# Altium schematic symbol library Control_Board_Model.SCHLIB: 226 symbols (part 3 of 7)
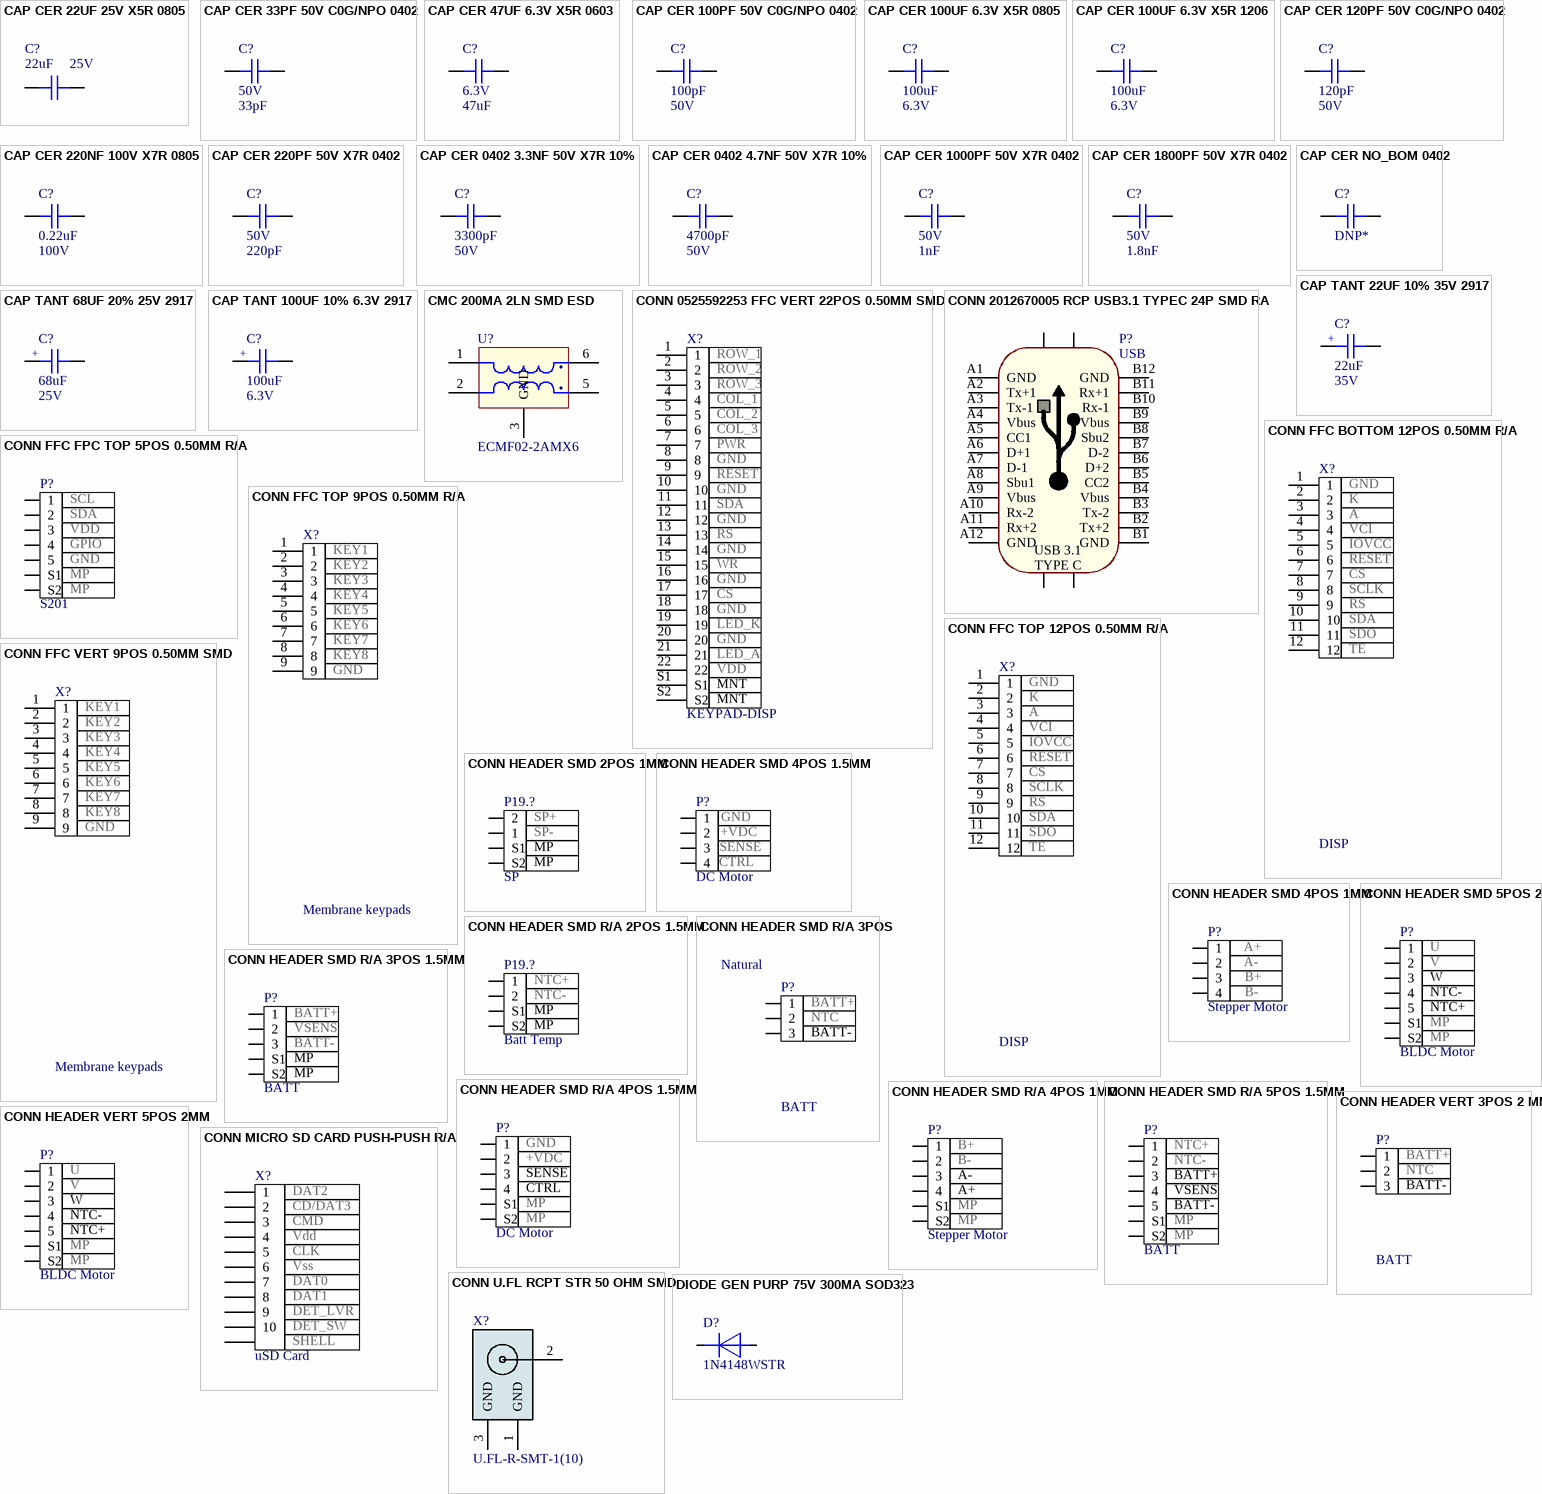
[diagram p9: symbols CAP CER 22UF 25V X5R 0805 to DIODE GEN PURP 75V 300MA SOD323]

## CONN HEADER SMD R/A 3POS 1.5MM
designator P?, comment BATT  pin_1: BATT+  pin_2: VSENS  pin_3: BATT-  pin_MP1: MP
Connector Header Surface Mount, Right Angle 3 position 0.059" (1.50mm); Manufacturer: JST; Manufacturer Part Number: S3B-ZR-SM4A-TF(LF)(SN); Number of Positions: 3; Connector Type: Male Pin; Voltage Rating: 50V; Contact Resistance: 30mR; Max Current Rating: 1A; Gender: Male; Pitch: 1.5mm; Supplier 1: Digi-Key; Stock 1: 0; Mount: Surface Mount; Color: Natural; Contact Plating: Tin,Copper; Contact Material: Brass,Tin; Housing Color: Beige; Housing Material: Polyamide; Min Operating Temperature: -25°C; Max Operating Temperature: 85°C; Packaging: Tape and Reel; Number of Rows: 1; Termination: Solder; Current Rating: 1A; Fastening Type: Detent; Max Voltage Rating (AC): 50V; Number of Contacts: 3; Orientation: Right Angle; Length: 7.5mm; Height: 7.2mm; Width: 3.5mm; Depth: 6.5mm; Lead Free: Lead Free; ComponentLink1URL: http://www.jst-mfg.com/product/pdf/eng/eZH.pdf?src-supplier=Digi-Key; ComponentLink1Description: http://www.jst-mfg.com/product/pdf/eng/eZH.pdf?src-supplier=Digi-Key; ComponentLink2URL: http://uk.rs-online.com/webdocs/13ed/0900766b813ed0dc.pdf?src-supplier=RSComponents; ComponentLink2Description: http://uk.rs-online.com/webdocs/13ed/0900766b813ed0dc.pdf?src-supplier=RSComponents; ComponentLink3URL: https://www.verical.com/server-webapp/html/getDatasheet?partID=641056&src-supplier=Verical; ComponentLink3Description: https://www.verical.com/server-webapp/html/getDatasheet?partID=641056&src-supplier=Verical; Supplier Part Number 1: 455-1694-1-ND; Pricing 1: 1=0.6, 10=0.561, 100=0.4304, 500=0.3743 (USD); Series: ZH; Contact Type: Male Pin; pin_MP2: MP
footprint CONN_JST_S3B-ZR-SM4A-TF(LF)(SN) (Footprint not found)
pins: 1, 2, 3, S1, S2

## CONN HEADER SMD R/A 4POS 1.5MM
designator P?, comment DC Motor  pin_1: GND  pin_2: +VDC  pin_MP1: MP  pin_3: SENSE  pin_4: CTRL
Connector Header Surface Mount, Right Angle 4 position 0.059" (1.50mm); Manufacturer: JST; Manufacturer Part Number: S4B-ZR-SM4A-TF(LF)(SN); Number of Positions: 4; Connector Type: Male Pin; Contact Resistance: 30mR; Max Current Rating: 1A; Voltage Rating: 50V; Gender: Male; Pitch: 1.5mm; Supplier 1: Digi-Key; Stock 1: 0; Mount: Surface Mount; Color: Natural; Contact Plating: Tin,Copper; Contact Material: Brass,Tin; Housing Color: Beige; Housing Material: Polyamide; Min Operating Temperature: -25°C; Max Operating Temperature: 85°C; Number of Rows: 1; Packaging: Tape and Reel; Series: ZH; Contact Type: Male Pin; Termination: Solder; Current Rating: 1A; Fastening Type: Detent; Max Voltage Rating (AC): 50V; Max Voltage Rating (DC): 50V; Number of Contacts: 4; Orientation: Right Angle; Length: 9mm; Width: 3.5mm; Height: 7.2mm; Depth: 6.5mm; Lead Free: Lead Free; ComponentLink1URL: http://www.jst-mfg.com/product/pdf/eng/eZH.pdf?src-supplier=Digi-Key; ComponentLink1Description: http://www.jst-mfg.com/product/pdf/eng/eZH.pdf?src-supplier=Digi-Key; ComponentLink2URL: http://uk.rs-online.com/webdocs/13ed/0900766b813ed0da.pdf?src-supplier=RSComponents; ComponentLink2Description: http://uk.rs-online.com/webdocs/13ed/0900766b813ed0da.pdf?src-supplier=RSComponents; ComponentLink3URL: https://www.verical.com/server-webapp/html/getDatasheet?partID=646289&src-supplier=Verical; ComponentLink3Description: https://www.verical.com/server-webapp/html/getDatasheet?partID=646289&src-supplier=Verical; ComponentLink4URL: https://www.verical.com/server-webapp/html/getDatasheet?partID=558977&src-supplier=Verical; ComponentLink4Description: https://www.verical.com/server-webapp/html/getDatasheet?partID=558977&src-supplier=Verical; Supplier Part Number 1: 455-1695-1-ND; pin_MP2: MP
footprint CONN_JST_S4B-ZR-SM4A-TF(LF)(SN) (Footprint not found)
pins: 1, 2, 3, 4, S1, S2

## CONN HEADER SMD R/A 4POS 1MM
designator P?, comment Stepper Motor  pin_1: B+  pin_2: B-  pin_MP1: MP  pin_3: A-  pin_4: A+
Connector Header Surface Mount, Right Angle 4 position 0.039" (1.00mm); Manufacturer: JST; Manufacturer Part Number: SM04B-NSHSS-TB(LF)(SN); Number of Positions: 4; Connector Type: Outer Shroud Contact; Pitch: 0.039inch; Supplier 1: Digi-Key; Stock 1: 27326; Pricing 1: 1=0.79, 10=0.694, 100=0.5985, 500=0.4897 (USD); Mount: Surface Mount; Color: Natural; Contact Plating: Tin; Fastening Type: Latch; Packaging: Tape and Reel; Number of Rows: 1; Termination: Solder; Series: NSH; Contact Type: Outer Shroud Contact; Supplier Part Number 1: 455-2774-1-ND; pin_MP2: MP
footprint CONN_JST_SM4B-NSHSS-TB(LF)(SN) (Footprint not found)
pins: 1, 2, 3, 4, S1, S2

## CONN HEADER SMD R/A 5POS 1.5MM
designator P?, comment BATT  pin_1: NTC+  pin_2: NTC-  pin_MP1: MP  pin_3: BATT+  pin_4: VSENS  pin_5: BATT-
Connector Header Surface Mount, Right Angle 5 position 0.059" (1.50mm); Manufacturer: JST; Manufacturer Part Number: S5B-ZR-SM4A-TF(LF)(SN); Number of Positions: 5; Connector Type: Male Pin; Contact Resistance: 30mR; Current Rating: 1A; Voltage Rating: 50V; Gender: Male; Pitch: 1.5mm; Supplier 1: Digi-Key; Stock 1: 0; Mount: Surface Mount; Color: Natural; Contact Plating: Tin,Copper; Contact Material: Brass,Tin; Housing Material: Polyamide; Housing Color: Beige; Min Operating Temperature: -25°C; Max Operating Temperature: 85°C; Number of Rows: 1; Packaging: Tape and Reel; Series: ZH; Contact Type: Male Pin; Termination: Solder; Max Current Rating: 1A; Fastening Type: Detent; Max Voltage Rating (AC): 50V; Number of Contacts: 5; Orientation: Right Angle; Length: 10.5mm; Width: 3.5mm; Height: 7.2mm; Depth: 6.5mm; REACH SVHC: Unknown; Lead Free: Lead Free; ComponentLink1URL: http://www.farnell.com/datasheets/2322661.pdf?src-supplier=Element14; ComponentLink1Description: http://www.farnell.com/datasheets/2322661.pdf?src-supplier=Element14; ComponentLink2URL: http://www.jst-mfg.com/product/pdf/eng/eZH.pdf?src-supplier=Digi-Key; ComponentLink2Description: http://www.jst-mfg.com/product/pdf/eng/eZH.pdf?src-supplier=Digi-Key; ComponentLink3URL: https://www.verical.com/server-webapp/html/getDatasheet?partID=640788&src-supplier=Verical; ComponentLink3Description: https://www.verical.com/server-webapp/html/getDatasheet?partID=640788&src-supplier=Verical; ComponentLink4URL: http://www.jst-mfg.com/product/pdf/eng/eZR.pdf?src-supplier=Future+Electronics; ComponentLink4Description: http://www.jst-mfg.com/product/pdf/eng/eZR.pdf?src-supplier=Future+Electronics; Supplier Part Number 1: 455-1696-1-ND; pin_MP2: MP
footprint CONN_JST_S5B-ZR-SM4A-TF(LF)(SN) (Footprint not found)
pins: 1, 2, 3, 4, 5, S1, S2

## CONN HEADER VERT 3POS 2 MM
designator P?, comment BATT  pin_1: BATT+  pin_2: NTC  pin_3: BATT-
Connector Header Through Hole 3 position 0.079" (2.00mm); Manufacturer: JST; Manufacturer Part Number: B03B-PASK-1(LF)(SN); Number of Positions: 3; Connector Type: Male Pin; Contact Resistance: 20mR; Current Rating: 3A; Voltage Rating: 250V; Gender: Male; Pitch: 2mm; Supplier 1: Digi-Key; Stock 1: 0; Mount: Surface Mount; Color: Natural; Contact Plating: Tin,Copper; Contact Material: Brass,Tin; Housing Material: Polyamide; Housing Color: Beige; Min Operating Temperature: -25°C; Max Operating Temperature: 85°C; Number of Rows: 1; Packaging: Tape and Reel; Series: ZH; Contact Type: Male Pin; Termination: Solder; Max Current Rating: 3A; Fastening Type: Detent; Max Voltage Rating (AC): 250V; Number of Contacts: 3; Orientation: Right Angle; REACH SVHC: Unknown; Lead Free: Lead Free; ComponentLink1URL: https://www.digikey.com/en/products/detail/jst-sales-america-inc/B03B-PASK-1-LF-SN/926739; ComponentLink1Description: https://www.digikey.com/en/products/detail/jst-sales-america-inc/B03B-PASK-1-LF-SN/926739; Supplier Part Number 1: 455-1833-ND
footprint CONN_JST_B03B-PASK-1(LF)(SN) (Connector Header Through Hole 3 position 0.079" (2.00mm))
pins: 1, 2, 3

## CONN HEADER VERT 5POS 2MM
designator P?, comment BLDC Motor  pin_1: U  pin_2: V  pin_MP1: MP  pin_3: W  pin_4: NTC-  pin_5: NTC+
Connector Header Through Hole 5 position 0.079" (2.00mm); Manufacturer: JST; Manufacturer Part Number: B5B-PH-K-S(LF)(SN); Number of Positions: 5; Connector Type: Male Pin; Contact Resistance: 20mR; Current Rating: 2A; Voltage Rating: 100V; Gender: Male; Pitch: 2mm; Supplier 1: Digi-Key; Stock 1: 0; Mount: Surface Mount; Color: Natural; Contact Plating: Tin,Copper; Contact Material: Brass,Tin; Housing Material: Polyamide; Housing Color: Beige; Min Operating Temperature: -25°C; Max Operating Temperature: 85°C; Number of Rows: 1; Packaging: Tape and Reel; Series: ZH; Contact Type: Male Pin; Termination: Solder; Max Current Rating: 2A; Fastening Type: Detent; Max Voltage Rating (AC): 100V; Number of Contacts: 5; Orientation: Right Angle; Length: 11.9mm; Width: 3.5mm; Height: 8mm; Depth: 6.5mm; REACH SVHC: Unknown; Lead Free: Lead Free; ComponentLink1URL: https://www.digikey.com/en/products/detail/jst-sales-america-inc/B5B-PH-K-S-LF-SN/926614; ComponentLink1Description: https://www.digikey.com/en/products/detail/jst-sales-america-inc/B5B-PH-K-S-LF-SN/926614; Supplier Part Number 1: 455-1707-ND; pin_MP2: MP
footprint CONN_JST_B5B-PH-K-S(LF)(SN) (CONN HEADER R/A 5POS 2MM)
pins: 1, 2, 3, 4, 5, S1, S2

## CONN MICRO SD CARD PUSH-PUSH R/A
designator X?, comment uSD Card  pin_1: DAT2  pin_2: CD/DAT3  pin_3: CMD  pin_4: Vdd  pin_5: CLK  pin_6: Vss  pin_7: DAT0  pin_8: DAT1  pin_9: DET_LVR  pin_10: DET_SW  pin_0: SHELL
10 (8 + 2) Position Card Connector Secure Digital - microSD™ Surface Mount, Right Angle Gold; Manufacturer: Molex; Manufacturer Part Number: 5025700893; Current Rating: 500mA; Voltage Rating (AC): 10V; Max Voltage Rating (DC): 1.01kV; Gender: Female; Number of Contacts: 8; Pitch: 1.1mm; Supplier 1: Digi-Key; Stock 1: 10664; Pricing 1: 1=3.97, 10=3.812, 25=3.4944, 50=3.3356, 100=3.1768, 250=2.7797, 500=2.7003 (USD); Mount: Surface Mount; Contact Material: Copper Alloy,Copper; Contact Plating: Gold; Housing Material: Polymer; Min Operating Temperature: -25°C; Max Operating Temperature: 85°C; Packaging: Tape and Reel; Number of Rows: 1; Package Quantity: 1; Connector Type: Connector; Termination: SMD/SMT; Orientation: Right Angle; Number of Circuits: 8; Length: 13.8mm; Height: 1.8mm; Width: 1.8mm; Depth: 15.5mm; Radiation Hardening: No; REACH SVHC: Unknown; Halogen Free: Low Halogen; Lead Free: Lead Free; ComponentLink1URL: https://www.molex.com/pdm_docs/sd/5025700893_sd.pdf?src-supplier=Digi-Key; ComponentLink1Description: https://www.molex.com/pdm_docs/sd/5025700893_sd.pdf?src-supplier=Digi-Key; ComponentLink2URL: http://www.mouser.com/ds/2/276/5025700893_MEMORY_CARD_SOCKET-179363.pdf?src-supplier=Mouser; ComponentLink2Description: http://www.mouser.com/ds/2/276/5025700893_MEMORY_CARD_SOCKET-179363.pdf?src-supplier=Mouser; ComponentLink3URL: http://www.molex.com/webdocs/datasheets/pdf/en-us/5025700893_MEMORY_CARD_SOCKET.pdf?src-supplier=Avnet+Europe; ComponentLink3Description: http://www.molex.com/webdocs/datasheets/pdf/en-us/5025700893_MEMORY_CARD_SOCKET.pdf?src-supplier=Avnet+Europe; ComponentLink4URL: http://www.farnell.com/datasheets/1630840.pdf?src-supplier=Element14; ComponentLink4Description: http://www.farnell.com/datasheets/1630840.pdf?src-supplier=Element14; ComponentLink5URL: http://uk.rs-online.com/webdocs/13c5/0900766b813c54fb.pdf?src-supplier=RSComponents; ComponentLink5Description: http://uk.rs-online.com/webdocs/13c5/0900766b813c54fb.pdf?src-supplier=RSComponents; ComponentLink6URL: https://www.verical.com/server-webapp/html/getDatasheet?partID=321553&src-supplier=Verical; ComponentLink6Description: https://www.verical.com/server-webapp/html/getDatasheet?partID=321553&src-supplier=Verical; ComponentLink7URL: http://www.molex.com/webdocs/datasheets/pdf/en-us/5025700893_MEMORY_CARD_SOCKET.pdf?src-supplier=Avnet+Asia; ComponentLink7Description: http://www.molex.com/webdocs/datasheets/pdf/en-us/5025700893_MEMORY_CARD_SOCKET.pdf?src-supplier=Avnet+Asia; ComponentLink8URL: http://www.molex.com/webdocs/datasheets/pdf/en-us/5025700893_MEMORY_CARD_SOCKET.pdf?src-supplier=Avnet; ComponentLink8Description: http://www.molex.com/webdocs/datasheets/pdf/en-us/5025700893_MEMORY_CARD_SOCKET.pdf?src-supplier=Avnet; ComponentLink9URL: http://www.molex.com/webdocs/datasheets/pdf/en-us/5025700893_MEMORY_CARD_SOCKET.pdf?src-supplier=Element14; ComponentLink9Description: http://www.molex.com/webdocs/datasheets/pdf/en-us/5025700893_MEMORY_CARD_SOCKET.pdf?src-supplier=Element14; Supplier Part Number 1: WM19093CT-ND
footprint 5025700893 (Card Connector Secure Digital - microSD™ Surface Mount, Right Angle Gold 10 (8 + 2) Position)
pins: 0 (power), 1, 2, 3, 4, 5, 6, 7, 8, 9, 10

## CONN U.FL RCPT STR 50 OHM SMD
designator X?, comment U.FL-R-SMT-1(10)
U.FL (UMCC) Connector Receptacle, Male Pin 50Ohm Surface Mount Solder; Manufacturer: Hirose; Body Material: Bronze; Body Plating: Silver; Dielectric Material: Polymer; Impedance: 50R; Connector Type: Coaxial,Receptacle,Male Pin; Frequency: 6GHz; Insulation Resistance: 500MR; Wire/Cable Type: Coaxial; Supplier 1: Digi-Key; Manufacturer Part Number: U.FL-R-SMT-1(10); Stock 1: 19543; Pricing 1: 1=1.31, 10=1.15, 25=1.0824, 50=1.0374, 100=0.9922, 250=0.902, 500=0.8118, 1000=0.7216 (USD); Mount: Surface Mount; Contact Material: Brass,Bronze; Contact Plating: Gold; Housing Color: Beige; Min Operating Temperature: -40°C; Max Operating Temperature: 90°C; Termination: Solder; Orientation: Straight; Packaging: Tape and Reel; Package Quantity: 2500; Fastening Type: Snap; Max Frequency: 6GHz; Gender: Male; Length: 3mm; Depth: 3.1mm; Radiation Hardening: No; REACH SVHC: No SVHC; Lead Free: Lead Free; ComponentLink1URL: http://www.farnell.com/datasheets/91524.pdf?src-supplier=Element14; ComponentLink1Description: http://www.farnell.com/datasheets/91524.pdf?src-supplier=Element14; ComponentLink2URL: http://uk.rs-online.com/webdocs/1363/0900766b81363563.pdf?src-supplier=RSComponents; ComponentLink2Description: http://uk.rs-online.com/webdocs/1363/0900766b81363563.pdf?src-supplier=RSComponents; ComponentLink3URL: http://www.farnell.com/datasheets/2691132.pdf?src-supplier=Element14; ComponentLink3Description: http://www.farnell.com/datasheets/2691132.pdf?src-supplier=Element14; Supplier Part Number 1: H11891CT-ND; ClassName: P109
footprint CONN U.FL RCPT STR 50 OHM SMD (U.FL (UMCC) Connector Receptacle, Male Pin 50Ohm Surface Mount Solder)
pins: 1 GND, 2 Signal, 3 GND

## DIODE GEN PURP 75V 300MA SOD323
designator D?, comment 1N4148WSTR
Diode Standard 75 V 300mA (DC) Surface Mount SOD-323; Manufacturer: SMC Diode Solutions; Forward Voltage: 350mV; Max Surge Current: 500mA; Max Reverse Leakage Current: 2.5uA; Max Repetitive Reverse Voltage (Vrrm): 75V; Element Configuration: Single; Supplier 1: Digi-Key; Manufacturer Part Number: 1N4148WSTR; Stock 1: 28802; Pricing 1: 1=0.36, 10=0.27, 25=0.2368, 100=0.1284, 500=0.1048, 1000=0.0777, 2500=0.0683 (USD); Case/Package: SC-90, SOD-323F; Number of Pins: 2; Contact Plating: Tin,Matte; Min Operating Temperature: -65°C; Max Operating Temperature: 100°C; Forward Current: 300mA; Package Quantity: 1; Packaging: Tape and Reel; Average Rectified Current: 300mA; Peak Non-Repetitive Surge Current: 500mA; Max Forward Surge Current (Ifsm): 500mA; Termination: SMD/SMT; Max Reverse Voltage (DC): 75V; Radiation Hardening: No; REACH SVHC: No SVHC; Lead Free: Lead Free; ComponentLink1URL: https://www.digikey.com/en/products/detail/smc-diode-solutions/1N4148WSTR/6022449?s=N4IgTCBcDaIIwDYCsSC0cDMSCc7UDsATEAXQF8g; ComponentLink1Description: https://www.digikey.com/en/products/detail/smc-diode-solutions/1N4148WSTR/6022449?s=N4IgTCBcDaIIwDYCsSC0cDMSCc7UDsATEAXQF8g; Supplier Part Number 1: 1655-1359-1-ND; Mount: Surface Mount
footprint SOD-323F
pins: 1 K, 2 A

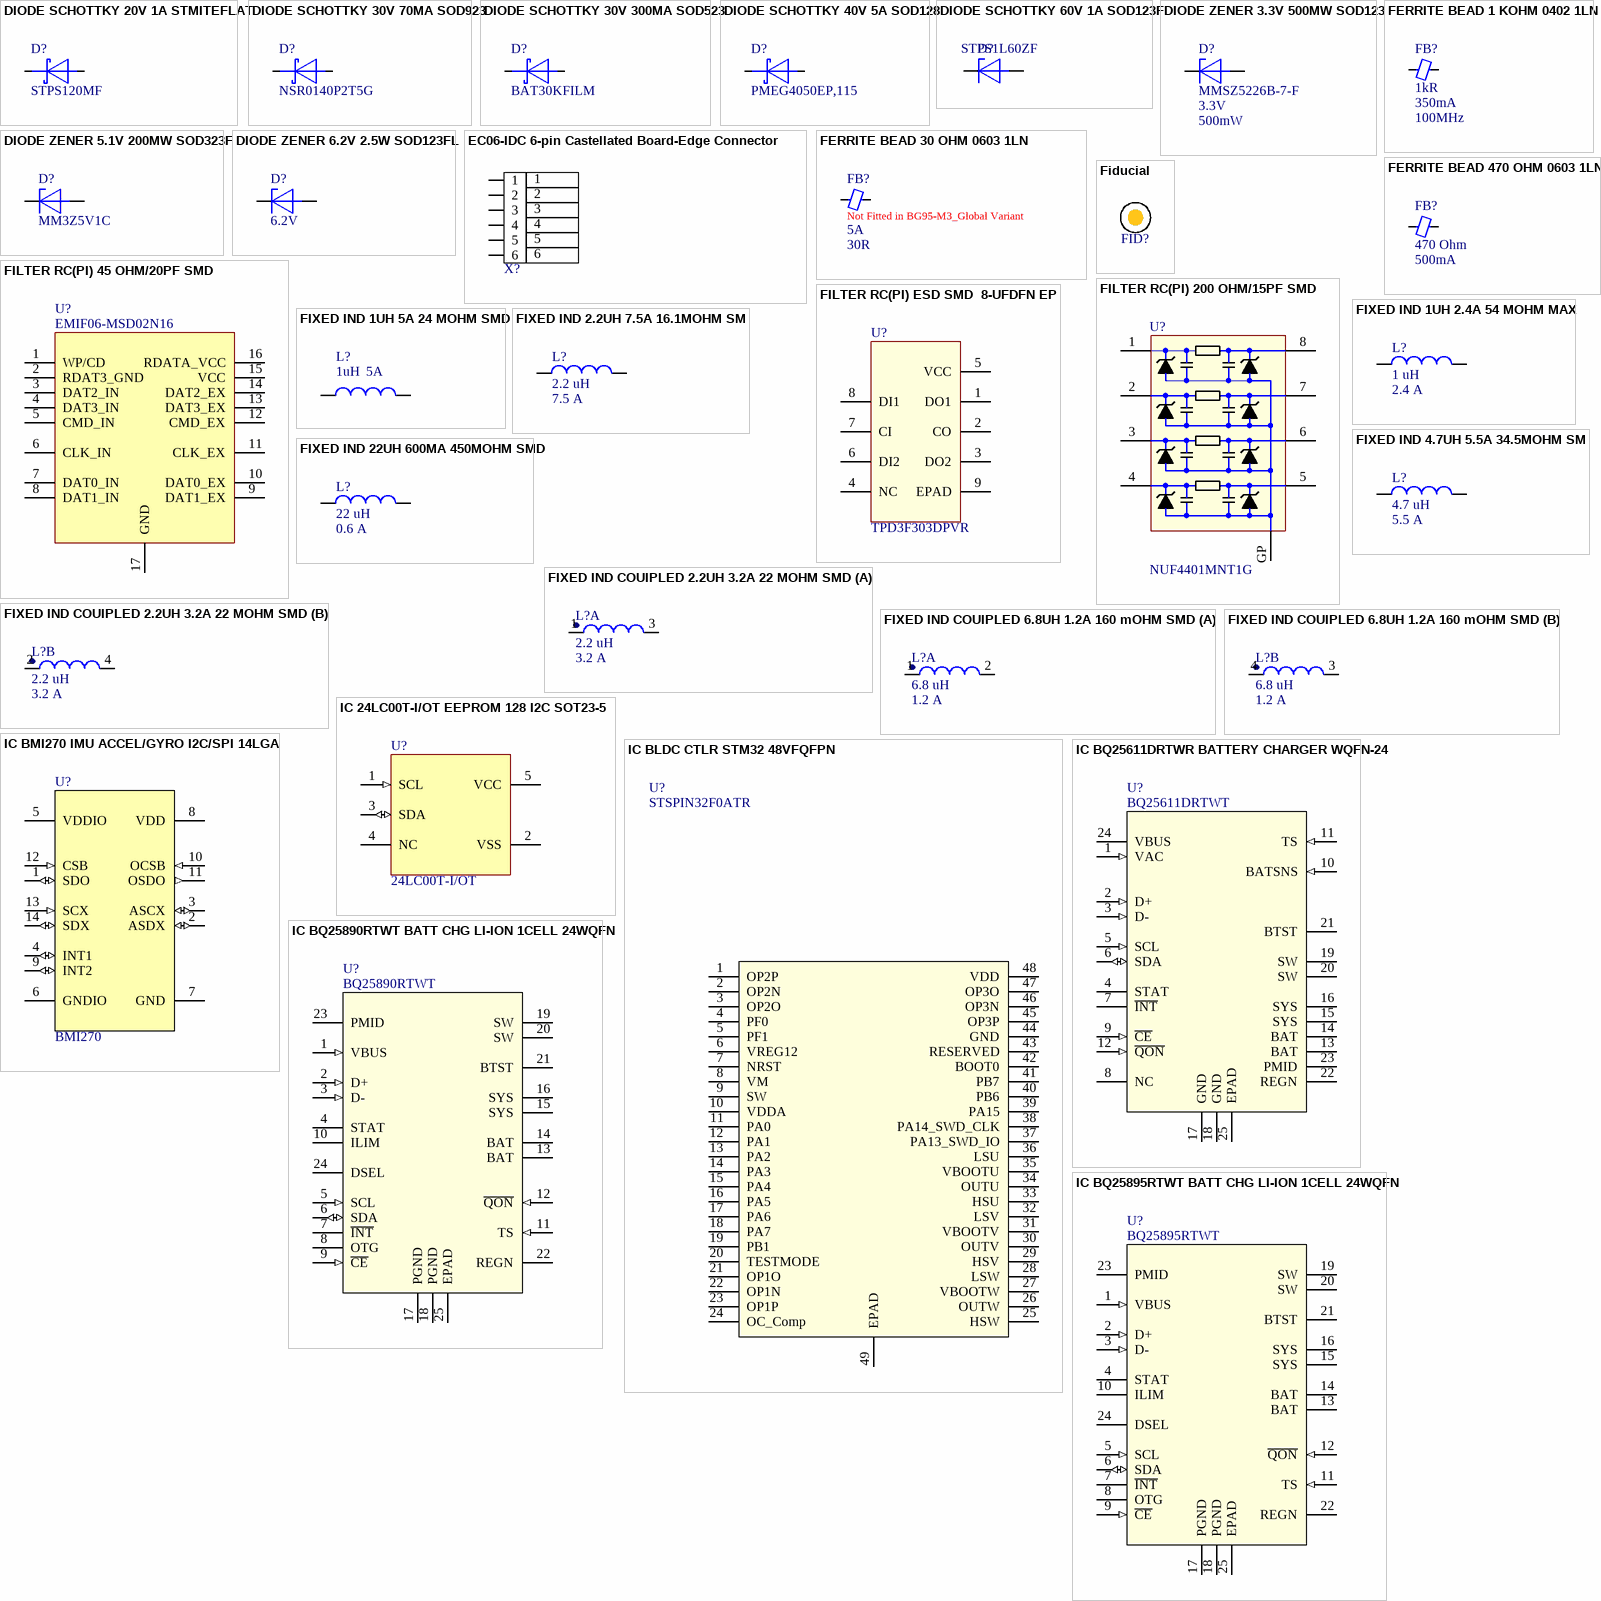
[diagram p2: symbols DIODE SCHOTTKY 20V 1A STMITEFLAT to IC BQ25895RTWT BATT CHG LI-ION 1CELL 24WQFN]

## DIODE SCHOTTKY 20V 1A STMITEFLAT
designator D?, comment STPS120MF
Diode Schottky 20V 1A Surface Mount STmite Flat; Manufacturer: STMicroelectronics; Forward Voltage: 440mV; Max Surge Current: 50A; Peak Reverse Current: 3.9uA; Element Configuration: Single; Max Reverse Leakage Current: 300uA; Supplier 1: Digi-Key; Manufacturer Part Number: STPS120MF; Stock 1: 3984; Pricing 1: 1=0.48, 10=0.409, 100=0.3057, 500=0.2402, 1000=0.1856, 2500=0.1692, 5000=0.1583 (USD); ComponentLink1URL: http://www.st.com/web/en/resource/technical/document/datasheet/CD00198749.pdf?src-supplier=Future+Electronics; ComponentLink1Description: http://www.st.com/web/en/resource/technical/document/datasheet/CD00198749.pdf?src-supplier=Future+Electronics; Supplier Part Number 1: 497-12281-1-ND; Packaging: Tape and Reel; Mount: Surface Mount; Number of Pins: 2; Min Operating Temperature: -65°C; Max Operating Temperature: 150°C; Forward Current: 1A; Package Quantity: 1; Average Rectified Current: 1A; Max Repetitive Reverse Voltage (Vrrm): 20V; Peak Non-Repetitive Surge Current: 50A; Max Reverse Voltage (DC): 20V; Radiation Hardening: No; Lead Free: Lead Free; ComponentLink2URL: http://www.st.com/content/ccc/resource/technical/document/datasheet/b2/7e/6d/c8/81/31/4e/f2/CD00198749.pdf/files/CD00198749.pdf/jcr:content/translations/en.CD00198749.pdf?src-supplier=Digi-Key; ComponentLink2Description: http://www.st.com/content/ccc/resource/technical/document/datasheet/b2/7e/6d/c8/81/31/4e/f2/CD00198749.pdf/files/CD00198749.pdf/jcr:content/translations/en.CD00198749.pdf?src-supplier=Digi-Key; ComponentLink3URL: http://www.st.com/st-web-ui/static/active/en/resource/technical/document/datasheet/CD00198749.pdf?src-supplier=Mouser; ComponentLink3Description: http://www.st.com/st-web-ui/static/active/en/resource/technical/document/datasheet/CD00198749.pdf?src-supplier=Mouser
footprint SODFL375X95-2N (SODFL, 2-Leads, Body 1.90x3.75mm, IPC Medium Density)
pins: 1 K, 2 A

## DIODE SCHOTTKY 30V 70MA SOD923
designator D?, comment NSR0140P2T5G
Diode Schottky 30V 70mA (DC) Surface Mount SOD-923; Manufacturer: ON Semiconductor; Forward Voltage: 350mV; Max Surge Current: 500mA; Max Power Dissipation: 100mW; Max Reverse Leakage Current: 500nA; Element Configuration: Single; Supplier 1: Digi-Key; Manufacturer Part Number: NSR0140P2T5G; Stock 1: 28802; Pricing 1: 1=0.36, 10=0.27, 25=0.2368, 100=0.1284, 500=0.1048, 1000=0.0777, 2500=0.0683 (USD); Case/Package: SOD-923-2; Number of Pins: 2; Contact Plating: Tin,Matte; Min Operating Temperature: -55°C; Max Operating Temperature: 125°C; Forward Current: 70mA; Package Quantity: 1; Packaging: Tape and Reel; Average Rectified Current: 70mA; Max Repetitive Reverse Voltage (Vrrm): 30V; Peak Reverse Current: 500nA; Power Dissipation: 100mW; Peak Non-Repetitive Surge Current: 500mA; Max Forward Surge Current (Ifsm): 500mA; Termination: SMD/SMT; Max Reverse Voltage (DC): 30V; Length: 0.85mm; Height: 0.43mm; Width: 0.65mm; Radiation Hardening: No; REACH SVHC: No SVHC; Lead Free: Lead Free; ComponentLink1URL: http://www.onsemi.com/pub_link/Collateral/NSR0140P2-D.PDF?src-supplier=Future+Electronics; ComponentLink1Description: http://www.onsemi.com/pub_link/Collateral/NSR0140P2-D.PDF?src-supplier=Future+Electronics; ComponentLink2URL: http://www.farnell.com/datasheets/2353885.pdf?src-supplier=Newark; ComponentLink2Description: http://www.farnell.com/datasheets/2353885.pdf?src-supplier=Newark; ComponentLink3URL: http://www.farnell.com/datasheets/86281.pdf?src-supplier=Element14; ComponentLink3Description: http://www.farnell.com/datasheets/86281.pdf?src-supplier=Element14; ComponentLink4URL: http://www.onsemi.com/pub/Collateral/NSR0140P2-D.PDF?src-supplier=Avnet; ComponentLink4Description: http://www.onsemi.com/pub/Collateral/NSR0140P2-D.PDF?src-supplier=Avnet; ComponentLink5URL: http://www.onsemi.com/pub/Collateral/NSR0140P2-D.PDF?src-supplier=Digi-Key; ComponentLink5Description: http://www.onsemi.com/pub/Collateral/NSR0140P2-D.PDF?src-supplier=Digi-Key; ComponentLink6URL: http://www.mouser.com/ds/2/308/NSR0140P2-D-115172.pdf?src-supplier=Mouser; ComponentLink6Description: http://www.mouser.com/ds/2/308/NSR0140P2-D-115172.pdf?src-supplier=Mouser; Supplier Part Number 1: NSR0140P2T5GOSCT-ND; Mount: Surface Mount
footprint SODFL100X40-2N (Footprint not found)
pins: 1 K, 2 A

## DIODE SCHOTTKY 30V 300MA SOD523
designator D?, comment BAT30KFILM
Diode Schottky 30 V 300mA (DC) Surface Mount SOD-523; Manufacturer: STMicroelectronics; Forward Voltage: 530mV; Max Power Dissipation: 100mW; Max Repetitive Reverse Voltage (Vrrm): 30V; Element Configuration: Single; Supplier 1: Digi-Key; Manufacturer Part Number: BAT30KFILM; Stock 1: 28802; Case/Package: SOD-523; Number of Pins: 2; Contact Plating: Tin,Matte; Min Operating Temperature: -55°C; Max Operating Temperature: 125°C; Forward Current: 300mA; Package Quantity: 1; Packaging: Tape and Reel; Average Rectified Current: 300mA; Power Dissipation: 100mW; Termination: SMD/SMT; Max Reverse Voltage (DC): 30V; Lead Free: Lead Free; ComponentLink1URL: https://www.digikey.com/en/products/detail/stmicroelectronics/BAT30KFILM/1207019?s=N4IgTCBcDaIEIEEAqBmADAaQGIEkAyAsiALoC%2BQA; ComponentLink1Description: https://www.digikey.com/en/products/detail/stmicroelectronics/BAT30KFILM/1207019?s=N4IgTCBcDaIEIEEAqBmADAaQGIEkAyAsiALoC%2BQA; Supplier Part Number 1: 497-5552-1-ND; Mount: Surface Mount
footprint SOD-523
pins: 1 K, 2 A

## DIODE SCHOTTKY 40V 5A SOD128
designator D?, comment PMEG4050EP,115
Diode Schottky 40V 5A Surface Mount CFP5; Manufacturer: Nexperia; Type: Schottky Diode; Ir - Reverse Current: 300 uA; Qualification: AEC-Q101; Vf - Forward Voltage: 0.49 V; Configuration: Single; Ifsm - Forward Surge Current: 70 A; Supplier 1: Mouser; Manufacturer Part Number: PMEG4050EP,115; Stock 1: 39277; Pricing 1: 1=0.470, 10=0.346, 100=0.216, 1000=0.147, 3000=0.129, 9000=0.116, 24000=0.114, 45000=0.107, 99000=0.104 (USD); ComponentLink1URL: https://www.mouser.com/datasheet/2/916/PMEG4050EP-1320387.pdf; ComponentLink1Description: https://www.mouser.com/datasheet/2/916/PMEG4050EP-1320387.pdf; Supplier Part Number 1: 771-PMEG4050EP115; RoHS: RoHS Compliant; Category: Schottky Diodes & Rectifiers; Height: 1.1 mm; Length: 4 mm; Package / Case: SOD-128-2; Packaging: Cut Tape; Product: Schottky Diodes; Width: 2.7 mm; Brand: Nexperia; Mounting Style: SMD/SMT; If - Forward Current: 5 A; Maximum Operating Temperature: + 150 C; Minimum Operating Temperature: - 55 C; Product Type: Schottky Diodes & Rectifiers; Standard Pack Qty: 3000; Subcategory: Diodes & Rectifiers; RoHS - Mouser: Y; Minimum Order Quantity: 1; Reeling: True; Operating Temperature Range: + 150 C; Technology: Si; Vrrm - Repetitive Reverse Voltage: 40 V; Mount: Surface Mount
footprint SOD-128
pins: 1 K, 2 A

## DIODE SCHOTTKY 60V 1A SOD123F
designator D?, comment STPS1L60ZF
Diode Schottky 60 V 1A Surface Mount SOD-123F; Manufacturer: STMicroelectronics; Working Voltage: 60V; Element Configuration: Single; Direction: Unidirectional; Supplier 1: Digi-Key; Manufacturer Part Number: STPS1L60ZF; Stock 1: 1919; Case/Package: SOD-123F; Number of Pins: 2; Contact Plating: Tin,Matte; Min Operating Temperature: -40°C; Max Operating Temperature: 175°C; Package Quantity: 3000; Packaging: Tape and Reel; If - Forward Current: 1A; Radiation Hardening: No; Lead Free: Lead Free; ComponentLink1URL: https://www.digikey.com/en/products/detail/stmicroelectronics/STPS1L60ZF/6709836; ComponentLink1Description: https://www.digikey.com/en/products/detail/stmicroelectronics/STPS1L60ZF/6709836; Supplier Part Number 1: 497-17151-1-ND; Mount: Surface Mount
footprint SOD-123FL
pins: 1 K, 2 A

## DIODE ZENER 3.3V 500MW SOD123
designator D?, comment MMSZ5226B-7-F  Working Voltage: 3.3V  Power Rating: 500mW
Zener Diode ±5% Surface Mount SOD-123; Manufacturer: Diodes; Forward Voltage: 900mV; Impedance: 28R; Max Reverse Leakage Current: 25uA; Test Current: 20mA; Element Configuration: Single; Supplier 1: Digi-Key; Manufacturer Part Number: MMSZ5226B-7-F; Stock 1: 63613; Pricing 1: 1=0.19, 10=0.164, 100=0.063, 500=0.046, 1000=0.0309 (USD); Mount: Surface Mount; Number of Pins: 2; Weight: 0.000353oz; Min Operating Temperature: -65°C; Max Operating Temperature: 150°C; Packaging: Tape and Reel; Package Quantity: 3000; Tolerance: 5%; Max Power Dissipation: 500mW; Zener Voltage: 3.3V; Voltage Tolerance: 5%; Power Dissipation: 500mW; Length: 3.85mm; Height: 1.35mm; Width: 1.7mm; Radiation Hardening: No; Lead Free: Lead Free; ComponentLink1URL: http://www.diodes.com/datasheets/ds18010.pdf?src-supplier=Avnet+Europe; ComponentLink1Description: http://www.diodes.com/datasheets/ds18010.pdf?src-supplier=Avnet+Europe; Supplier Part Number 1: MMSZ5226B-FDICT-ND; Case/Package: SOD-123-2; Zener Current: 25uA; Max Reverse Current: 25uA; Termination: SMD/SMT; Voltage Rating (DC): 3.3V
footprint SOD-123
pins: 1 K, 2 A

## DIODE ZENER 5.1V 200MW SOD323F
designator D?, comment MM3Z5V1C
Zener Diode 5.1V 200mW ±5% Surface Mount SOD-323F; Manufacturer: ON Semiconductor / Fairchild; Impedance: 56R; Max Reverse Leakage Current: 1.8uA; Test Current: 5mA; Element Configuration: Single; Supplier 1: Digi-Key; Manufacturer Part Number: MM3Z5V1C; Stock 1: 27359; Pricing 1: 1=0.2, 10=0.167, 25=0.1396, 100=0.0682, 500=0.0569, 1000=0.0395 (USD); Mount: Surface Mount; Number of Pins: 2; Weight: 0.0276g; Min Operating Temperature: -65°C; Max Operating Temperature: 150°C; Packaging: Tape and Reel; Package Quantity: 1; Tolerance: 5%; Max Power Dissipation: 200mW; Zener Voltage: 5.1V; Voltage Tolerance: 5%; Power Dissipation: 200mW; Length: 1.3mm; Height: 1mm; Width: 1.7mm; Radiation Hardening: No; REACH SVHC: No SVHC; Lead Free: Lead Free; ComponentLink1URL: http://www.fairchildsemi.com/datasheets/MM/MM3Z10VC.pdf?src-supplier=Digi-Key; ComponentLink1Description: http://www.fairchildsemi.com/datasheets/MM/MM3Z10VC.pdf?src-supplier=Digi-Key; ComponentLink2URL: http://www.onsemi.com/pub/Collateral/MM3Z9V1C-D.pdf?src-supplier=Digi-Key; ComponentLink2Description: http://www.onsemi.com/pub/Collateral/MM3Z9V1C-D.pdf?src-supplier=Digi-Key; ComponentLink3URL: http://www.mouser.com/ds/2/149/MM3Z5V1C-195780.pdf?src-supplier=Mouser; ComponentLink3Description: http://www.mouser.com/ds/2/149/MM3Z5V1C-195780.pdf?src-supplier=Mouser; ComponentLink4URL: http://www.fairchildsemi.com/ds/MM/MM3Z9V1C.pdf?src-supplier=Avnet; ComponentLink4Description: http://www.fairchildsemi.com/ds/MM/MM3Z9V1C.pdf?src-supplier=Avnet; Supplier Part Number 1: MM3Z5V1CCT-ND
footprint SOD-323F
pins: 1 K, 2 A

## DIODE ZENER 6.2V 2.5W SOD123FL
designator D?, comment Zener Voltage: 6.2V  (hidden comment: Zener Diode 6.2V 2.5W ±5% Surface Mount SOD-123FL)
Manufacturer: ON Semiconductor; Manufacturer Part Number: 1SMF5920BT1G; Max Reverse Leakage Current: 5uA; Impedance: 2R; Working Voltage: 4V; Element Configuration: Single; Direction: Unidirectional; Supplier 1: Digi-Key; Stock 1: 1919; Pricing 1: 1=0.46, 10=0.391, 25=0.3652, 100=0.2712, 250=0.2576, 500=0.2117, 1000=0.1721 (USD); Case/Package: SOD-123-2; Number of Pins: 2; Contact Plating: Tin,Matte; Min Operating Temperature: -55°C; Max Operating Temperature: 150°C; Package Quantity: 3000; Tolerance: 5%; Packaging: Tape and Reel; Voltage Tolerance: 5%; Power Dissipation: 2.5W; Max Power Dissipation: 2.5W; Leakage Current: 5uA; Length: 2.7mm; Depth: 1.65mm; Radiation Hardening: No; Lead Free: Lead Free; ComponentLink1URL: http://www.mouser.com/ds/2/308/1SMF5920B-D-108688.pdf?src-supplier=Mouser; ComponentLink1Description: http://www.mouser.com/ds/2/308/1SMF5920B-D-108688.pdf?src-supplier=Mouser; ComponentLink2URL: http://components.arrow.com/part/dataview/50999384S92509N5236?src-supplier=Arrow; ComponentLink2Description: http://components.arrow.com/part/dataview/50999384S92509N5236?src-supplier=Arrow; ComponentLink3URL: http://www.onsemi.com/pub/Collateral/1SMF5920B-D.PDF?src-supplier=Digi-Key; ComponentLink3Description: http://www.onsemi.com/pub/Collateral/1SMF5920B-D.PDF?src-supplier=Digi-Key; ComponentLink4URL: http://www.onsemi.com/pub_link/Collateral/1SMF5920B-D.PDF?src-supplier=Avnet; ComponentLink4Description: http://www.onsemi.com/pub_link/Collateral/1SMF5920B-D.PDF?src-supplier=Avnet; Supplier Part Number 1: 1SMF5920BT1GOSCT-ND; Mount: Surface Mount
footprint SOD-123FL
pins: 1 K, 2 A

## EC06-IDC 6-pin Castellated Board-Edge Connector
designator X?  pin_1: 1  pin_2: 2  pin_6: 6  pin_3: 3  pin_4: 4  pin_5: 5
6-pin Edge-Connect™ connector to 6-pin 0.1″ pitch female IDC.
footprint EC06-IDC (Footprint not found)
pins: 1, 2, 3, 4, 5, 6

## FERRITE BEAD 1 KOHM 0402 1LN
designator FB?  Impedance: 1kR  Max DC Current: 350mA  Test Frequency: 100MHz  (hidden comment: FERRITE BEAD 1 KOHM 0402 1LN)
1 kOhms @ 100MHz 1  Ferrite Bead 0402 (1005 Metric) 350mA 490mOhm; Manufacturer: Murata; Manufacturer Part Number: BLM15AX102SN1D; Material: Ferrite,Steel; Tolerance: 25%; Number of Lines: 1; DC Resistance (DCR): 490mR; Supplier 1: Digi-Key; Stock 1: 138597; Pricing 1: 1=0.11, 10=0.09, 25=0.0812, 50=0.0596, 100=0.0514, 250=0.0406, 500=0.0343, 1000=0.0289, 5000=0.0257 (USD); Case/Package: 0402; Number of Pins: 2; Case Code (Metric): 1005; Case Code (Imperial): 0402; Min Operating Temperature: -55°C; Max Operating Temperature: 125°C; Package Quantity: 1; Packaging: Tape and Reel; Current Rating: 350mA; Max Current Rating: 350mA; Termination: SMD/SMT; Number of Circuits: 1; Length: 1mm; Height: 0.5mm; Width: 0.5mm; Depth: 0.5mm; REACH SVHC: No SVHC; Lead Free: Lead Free; ComponentLink1URL: https://www.murata.com/en-us/products/productdata/8796740059166/ENFA0018.pdf?src-supplier=Digi-Key; ComponentLink1Description: https://www.murata.com/en-us/products/productdata/8796740059166/ENFA0018.pdf?src-supplier=Digi-Key; ComponentLink2URL: http://search.murata.co.jp/Ceramy/image/img/PDF/ENG/L0110S0100BLM15AX_SN.pdf?src-supplier=Future+Electronics; ComponentLink2Description: http://search.murata.co.jp/Ceramy/image/img/PDF/ENG/L0110S0100BLM15AX_SN.pdf?src-supplier=Future+Electronics; ComponentLink3URL: http://www.produktinfo.conrad.com/datenblaetter/1100000-1199999/001171674-da-01-en-CHIP_DROSSEL0402_1000R_350MA_1_0X0_5MM.pdf?src-supplier=Conrad; ComponentLink3Description: http://www.produktinfo.conrad.com/datenblaetter/1100000-1199999/001171674-da-01-en-CHIP_DROSSEL0402_1000R_350MA_1_0X0_5MM.pdf?src-supplier=Conrad; ComponentLink4URL: http://www.produktinfo.conrad.com/datenblaetter/1100000-1199999/001172166-da-01-en-DROSSEL_0402_1000R_31_0X0_5MM_10000ST.pdf?src-supplier=Conrad; ComponentLink4Description: http://www.produktinfo.conrad.com/datenblaetter/1100000-1199999/001172166-da-01-en-DROSSEL_0402_1000R_31_0X0_5MM_10000ST.pdf?src-supplier=Conrad; Supplier Part Number 1: 490-5442-1-ND
footprint L0402
pins: 1, 2

## FERRITE BEAD 30 OHM 0603 1LN
designator FB?, comment Not Fitted in BG95-M3_Global Variant  Current Rating: 5A  Impedance: 30R
30 Ohms @ 100MHz 1 Power Line Ferrite Bead 0603 (1608 Metric) 5A 10mOhm; Manufacturer: TDK; Manufacturer Part Number: MPZ1608S300ATAH0; Tolerance: 25%; DC Resistance (DCR): 10mR; Supplier 1: Digi-Key; Stock 1: 93167; Pricing 1: 1=0.1, 10=0.079, 25=0.0716, 50=0.0644, 100=0.0472, 250=0.0343, 500=0.0315, 1000=0.0272 (USD); Case/Package: 0603; Case Code (Metric): 1608; Case Code (Imperial): 0603; Min Operating Temperature: -55°C; Max Operating Temperature: 125°C; Package Quantity: 4000; Packaging: Tape and Reel; Termination: SMD/SMT; Length: 0.063inch; Height: 0.6mm; Width: 0.031inch; Depth: 0.8mm; REACH SVHC: No SVHC; Lead Free: Lead Free; ComponentLink1URL: https://media.digikey.com/pdf/Data%20Sheets/TDK%20PDFs/MPZ_Series_Br.pdf?src-supplier=Digi-Key; ComponentLink1Description: https://media.digikey.com/pdf/Data%20Sheets/TDK%20PDFs/MPZ_Series_Br.pdf?src-supplier=Digi-Key; ComponentLink2URL: http://www.farnell.com/datasheets/1795297.pdf?src-supplier=Element14; ComponentLink2Description: http://www.farnell.com/datasheets/1795297.pdf?src-supplier=Element14; Supplier Part Number 1: 445-1562-6-ND; Max DC Current: 5A; Test Frequency: 100MHz; Revision: July-2002: Re-released for DXP Platform.; Mount: Surface Mount; Weight: 7.1E-05oz; Core Material: Ferrite
footprint 0603L
footprint L0603
pins: 1, 2

## FERRITE BEAD 470 OHM 0603 1LN
designator FB?  Impedance: 470 Ohm  Current Rating: 500mA  (hidden comment: FERRITE BEAD 470 OHM 0603 1LN)
470 Ohms @ 100MHz 1  Ferrite Bead 0603 (1608 Metric) 500mA 210mOhm; Manufacturer: Murata; Manufacturer Part Number: BLM18EG471SN1D; Material: Ferrite,Steel; Tolerance: 25%; DC Resistance (DCR): 210mR; Number of Lines: 1; Supplier 1: Digi-Key; Stock 1: 4285; Pricing 1: 1=0.23, 10=0.175, 25=0.1452, 50=0.1252, 100=0.1126, 250=0.0951, 500=0.0851, 1000=0.0726 (USD); Case/Package: 0603; Number of Pins: 2; Weight: 7.1E-05oz; Core Material: Ferrite; Case Code (Metric): 1608; Case Code (Imperial): 0603; Min Operating Temperature: -55°C; Max Operating Temperature: 125°C; Max DC Current: 500mA; Resistance: 210mR; Package Quantity: 1; Packaging: Tape and Reel; Max Current Rating: 500mA; Termination: SMD/SMT; Test Frequency: 100MHz; DC Current: 500mA; Military Standard: Not; Frequency: 100MHz; Number of Circuits: 1; Length: 1.6mm; Height: 0.8mm; Width: 0.8mm; Depth: 0.8mm; Radiation Hardening: No; REACH SVHC: No SVHC; Lead Free: Lead Free; ComponentLink1URL: http://uk.rs-online.com/webdocs/11b5/0900766b811b5866.pdf?src-supplier=RSComponents; ComponentLink1Description: http://uk.rs-online.com/webdocs/11b5/0900766b811b5866.pdf?src-supplier=RSComponents; ComponentLink2URL: http://www.farnell.com/datasheets/5169.pdf?src-supplier=Element14; ComponentLink2Description: http://www.farnell.com/datasheets/5169.pdf?src-supplier=Element14; ComponentLink3URL: https://www.murata.com/en-global/products/productdata/8796733767710/S0580E.pdf?src-supplier=Digi-Key; ComponentLink3Description: https://www.murata.com/en-global/products/productdata/8796733767710/S0580E.pdf?src-supplier=Digi-Key; ComponentLink4URL: https://www.distrelec.biz/Web/Downloads/_t/ds/blm-series_eng_tds.pdf?mime=application%2Fpdf&src-supplier=Distrelec; ComponentLink4Description: https://www.distrelec.biz/Web/Downloads/_t/ds/blm-series_eng_tds.pdf?mime=application%2Fpdf&src-supplier=Distrelec; ComponentLink5URL: https://www.verical.com/server-webapp/html/getDatasheet?partID=228865&src-supplier=Verical; ComponentLink5Description: https://www.verical.com/server-webapp/html/getDatasheet?partID=228865&src-supplier=Verical; ComponentLink6URL: http://search.murata.co.jp/Ceramy/image/img/PDF/ENG/L0110S0101BLM18E.pdf?src-supplier=Avnet; ComponentLink6Description: http://search.murata.co.jp/Ceramy/image/img/PDF/ENG/L0110S0101BLM18E.pdf?src-supplier=Avnet; ComponentLink7URL: http://www.produktinfo.conrad.com/datenblaetter/1100000-1199999/001171700-da-01-en-CHIP_DROSSEL0603_470R_500MA_1_6X0_8MM.pdf?src-supplier=Conrad; ComponentLink7Description: http://www.produktinfo.conrad.com/datenblaetter/1100000-1199999/001171700-da-01-en-CHIP_DROSSEL0603_470R_500MA_1_6X0_8MM.pdf?src-supplier=Conrad; ComponentLink8URL: http://www.produktinfo.conrad.com/datenblaetter/1100000-1199999/001172269-da-01-en-DROSSEL_0603_470R_1_6X0_8MM_4000ST.pdf?src-supplier=Conrad; ComponentLink8Description: http://www.produktinfo.conrad.com/datenblaetter/1100000-1199999/001172269-da-01-en-DROSSEL_0603_470R_1_6X0_8MM_4000ST.pdf?src-supplier=Conrad; Supplier Part Number 1: 490-3993-6-ND; Mount: Surface Mount
footprint L0603
pins: 1, 2

## Fiducial
designator FID?, comment N/A  (value not drawn)  (no BOM)
Fiducial mark.  There is nothing to buy or mount.; ClassName: FiducialMark; CompType: Fiducial; Manufacturer: N/A; MountType: N/A; PackageReference: Fiducial; Manufacturer Part Number: N/A
footprint Fiducial
footprint FIDUCIAL_SMALL

## FILTER RC(PI) 45 OHM/20PF SMD
designator U?, comment EMIF06-MSD02N16
RC (Pi) EMI Filter 2nd Order Low Pass 6 Channel R = 45Ohms, C = 20pF (Total)  16-UFDFN Exposed Pad; Manufacturer: STMicroelectronics; Number of Channels: 6; ESD Protection: Yes; Breakdown Voltage: 8V; Supplier 1: Digi-Key; Manufacturer Part Number: EMIF06-MSD02N16; Stock 1: 3881; Pricing 1: 1=0.95, 10=0.904, 25=0.8752, 50=0.7148, 100=0.6418, 250=0.5834, 500=0.5543, 1000=0.4959 (USD); Mount: Surface Mount; Case/Package: QFN; Number of Pins: 16; Contact Plating: Gold; Min Operating Temperature: -30°C; Max Operating Temperature: 85°C; Termination: Flat; Packaging: Tape and Reel; Package Quantity: 1; Capacitance: 20pF; Max Breakdown Voltage: 8V; Length: 3.55mm; Height: 0.022inch; Width: 0.047inch; Depth: 1.25mm; Radiation Hardening: No; Lead Free: Lead Free; REACH SVHC: No SVHC; ComponentLink1URL: http://www.st.com/content/ccc/resource/technical/document/datasheet/a7/86/d3/98/2c/7f/4b/d2/CD00217829.pdf/files/CD00217829.pdf/jcr:content/translations/en.CD00217829.pdf?src-supplier=Digi-Key; ComponentLink1Description: http://www.st.com/content/ccc/resource/technical/document/datasheet/a7/86/d3/98/2c/7f/4b/d2/CD00217829.pdf/files/CD00217829.pdf/jcr:content/translations/en.CD00217829.pdf?src-supplier=Digi-Key; ComponentLink2URL: https://www.verical.com/server-webapp/html/getDatasheet?partID=558558&src-supplier=Verical; ComponentLink2Description: https://www.verical.com/server-webapp/html/getDatasheet?partID=558558&src-supplier=Verical; ComponentLink3URL: http://www.st.com/web/en/resource/technical/document/datasheet/CD00217829.pdf?src-supplier=Mouser; ComponentLink3Description: http://www.st.com/web/en/resource/technical/document/datasheet/CD00217829.pdf?src-supplier=Mouser; Supplier Part Number 1: 497-8751-1-ND
footprint QFN 3.5x1.2-16L (Micro QFN 3.5x1.2-16L footprint)
pins: 1 WP/CD, 2 RDAT3_GND, 3 DAT2_IN, 4 DAT3_IN, 5 CMD_IN, 6 CLK_IN, 7 DAT0_IN, 8 DAT1_IN, 9 DAT1_EX, 10 DAT0_EX, 11 CLK_EX, 12 CMD_EX, 13 DAT3_EX, 14 DAT2_EX, 15 VCC (power), 16 RDATA_VCC (power), 17 GND (power)

## FILTER RC(PI) 200 OHM/15PF SMD
designator U?, comment NUF4401MNT1G
EMI filter w/ ESD prot. NUF4401MN 12mm r; Manufacturer: ON Semiconductor; Number of Channels: 4; Frequency: 2.4GHz; Capacitance: 15pF; Number of Elements: 8; Resistance: 200R; Attenuation Value: 35dB; ESD Protection: Yes; Max DC Current: 100nA; DC Resistance (DCR): 230R; Test Frequency: 125MHz; Shielding: Unshielded; Supplier 1: Digi-Key; Manufacturer Part Number: NUF4401MNT1G; Stock 1: 2896; Pricing 1: 1=0.49, 10=0.45, 25=0.4296, 50=0.4158, 100=0.4019, 250=0.3812, 500=0.3188, 1000=0.2474 (USD); Case/Package: DFN; Min Operating Temperature: -40°C; Max Operating Temperature: 85°C; Packaging: Tape and Reel; ComponentLink1URL: http://www.onsemi.com/pub/Collateral/NUF4401MN-D.PDF?src-supplier=Digi-Key; ComponentLink1Description: http://www.onsemi.com/pub/Collateral/NUF4401MN-D.PDF?src-supplier=Digi-Key; ComponentLink2URL: http://www.onsemi.com/pub/Collateral/NUF4401MN-D.PDF?src-supplier=Avnet; ComponentLink2Description: http://www.onsemi.com/pub/Collateral/NUF4401MN-D.PDF?src-supplier=Avnet; ComponentLink3URL: http://www.onsemi.com/pub_link/Collateral/NUF4401MN-D.PDF?src-supplier=Avnet+Europe; ComponentLink3Description: http://www.onsemi.com/pub_link/Collateral/NUF4401MN-D.PDF?src-supplier=Avnet+Europe; ComponentLink4URL: http://www.mouser.com/ds/2/308/NUF4401MN-D-100381.pdf?src-supplier=Mouser; ComponentLink4Description: http://www.mouser.com/ds/2/308/NUF4401MN-D-100381.pdf?src-supplier=Mouser; Supplier Part Number 1: 488-NUF4401MNT1GCT-ND; Number of Pins: 8; Contact Plating: Tin,Matte; Package Quantity: 1; Circuit Type: Filter; Termination: Flat; Number of Lines: 4; Length: 2mm; Height: 1mm; Width: 0.079inch; Depth: 2mm; Radiation Hardening: No; Lead Free: Lead Free; Halogen Free: Halogen Free; Mount: Surface Mount
footprint DFN8 (DFN8 2x2, 0.5P CASE 506AQ)
pins: 1 INP1, 2 INP2, 3 INP3, 4 INP4, 5 OUT4, 6 OUT3, 7 OUT2, 8 OUT1, GP GND

## FILTER RC(PI) ESD SMD  8-UFDFN EP
designator U?, comment TPD3F303DPVR
RC (Pi) EMI Filter 2nd Order Low Pass 3 Channel R = 47Ohms, 100Ohms, C = 20pF  8-UFDFN Exposed Pad; Manufacturer: Texas Instruments; Number of Channels: 3; Operating Supply Voltage: 5.5V; ESD Protection: Yes; Clamping Voltage: 10V; Frequency: 308MHz; Supplier 1: Digi-Key; Manufacturer Part Number: TPD3F303DPVR; Stock 1: 4896; Pricing 1: 1=0.85, 10=0.812, 25=0.7856, 50=0.6414, 100=0.576, 250=0.5236, 500=0.4974, 1000=0.4451 (USD); Case/Package: SMD/SMT; Number of Pins: 8; Contact Plating: Gold; Min Operating Temperature: -40°C; Max Operating Temperature: 85°C; Package Quantity: 1; Packaging: Tape and Reel; Capacitance: 20pF; Termination: Flat; Length: 2.2mm; Height: 0.026inch; Width: 0.063inch; Depth: 1.7mm; Radiation Hardening: No; REACH SVHC: No SVHC; Lead Free: Lead Free; ComponentLink1URL: http://www.ti.com/lit/ds/symlink/tpd3f303.pdf?src-supplier=Digi-Key; ComponentLink1Description: http://www.ti.com/lit/ds/symlink/tpd3f303.pdf?src-supplier=Digi-Key; ComponentLink2URL: http://focus.ti.com/lit/ds/symlink/tpd3f303.pdf?src-supplier=Avnet+Europe; ComponentLink2Description: http://focus.ti.com/lit/ds/symlink/tpd3f303.pdf?src-supplier=Avnet+Europe; ComponentLink3URL: https://www.verical.com/server-webapp/html/getDatasheet?partID=302817&src-supplier=Verical; ComponentLink3Description: https://www.verical.com/server-webapp/html/getDatasheet?partID=302817&src-supplier=Verical; ComponentLink4URL: http://www.farnell.com/datasheets/1558442.pdf?src-supplier=Element14; ComponentLink4Description: http://www.farnell.com/datasheets/1558442.pdf?src-supplier=Element14; Supplier Part Number 1: 296-28299-1-ND; Mount: Surface Mount
footprint DPV8_1P7X0P4
pins: 1 DO1, 2 CO, 3 DO2, 4 NC, 5 VCC (power), 6 DI2, 7 CI, 8 DI1, 9 EPAD

## FIXED IND 1UH 2.4A 54 MOHM MAX
designator L?  Inductance: 1 uH  Maximum DC Current: 2.4 A  (hidden comment: FIXED IND 1UH 2.4A 54 MOHM MAX)
1µH Semi-Shielded Wirewound Inductor 2.4A 54mOhm Max Nonstandard; Manufacturer: Wurth Elektronik; Manufacturer Part Number: 74405031010; Maximum DC Resistance: 54 mOhms; Self Resonant Frequency: 66 MHz; Tolerance: 20 %; Saturation Current: 5.4 A; Test Frequency: 1 MHz; Supplier 1: Mouser; RoHS: RoHS Compliant; Category: Fixed Inductors; Stock 1: 2000; Pricing 1: 1=0.730, 10=0.721, 50=0.601, 100=0.457, 1000=0.397, 2000=0.385 (USD); Application: Power; Height: 1.2 mm; Length: 3 mm; Package / Case: 3 mm x 3 mm; Packaging: Cut Tape; Product: Fixed Inductors; Series: WE-LQSH; Shielding: Shielded; Termination Style: SMD/SMT; Width: 3 mm; Brand: Wurth Elektronik; Mounting Style: PCB Mount; Maximum Operating Temperature: + 125 C; Minimum Operating Temperature: - 40 C; Product Type: Fixed Inductors; Standard Pack Qty: 2000; Subcategory: Inductors, Chokes & Coils; Termination: -; RoHS - Mouser: Y; Minimum Order Quantity: 1; Reeling: True; ComponentLink1URL: https://www.mouser.com/datasheet/2/445/74405031010-1720907.pdf; ComponentLink1Description: https://www.mouser.com/datasheet/2/445/74405031010-1720907.pdf; Supplier 2: Digi-Key; Supplier Part Number 1: 710-74405031010; Supplier Part Number 2: 732-10780-1-ND; Mount: Surface Mount
footprint IND_WE_LQSH_3012 (Footprint not found)
pins: 1, 2

## FIXED IND 1UH 5A 24 MOHM SMD
designator L?  Inductance: 1uH  Current Rating: 5A  (hidden comment: FIXED IND 1UH 5A 24 MOHM SMD)
1µH Shielded Molded Inductor 5A 24mOhm Max Nonstandard; Manufacturer: Vishay Dale; Manufacturer Part Number: IHLP1212BZER1R0M11; Core Material: Metal,Composite; Tolerance: 20%; DC Resistance (DCR): 24mR; Self Resonant Frequency: 75MHz; Saturation Current: 4.5A; Test Frequency: 100kHz; Supplier 1: Digi-Key; Stock 1: 70286; Pricing 1: 1=1.39, 10=1.287, 25=1.188, 50=0.99, 100=0.9306, 250=0.8316, 500=0.7128, 1000=0.6336 (USD); Mount: Surface Mount; Case/Package: 1212; Number of Pins: 2; Case Code (Metric): 3630; Case Code (Imperial): 1212; Contact Plating: Tin; Min Operating Temperature: -55°C; Max Operating Temperature: 125°C; Shielding: Shielded; Packaging: Tape and Reel; Package Quantity: 3000; Inductance Tolerance: 20%; Max DC Current: 5A; Termination: SMD/SMT; RMS Current (Irms): 5A; Military Standard: Not; Length: 3.6mm; Height: 2mm; Depth: 3.2mm; Width: 0.118inch; Height - Seated (Max): 0.079inch; Radiation Hardening: No; REACH SVHC: Unknown; Lead Free: Lead Free; ComponentLink1URL: http://www.mouser.com/ds/2/427/lp12bz11-244380.pdf?src-supplier=Mouser; ComponentLink1Description: http://www.mouser.com/ds/2/427/lp12bz11-244380.pdf?src-supplier=Mouser; ComponentLink2URL: http://www.vishay.com/docs/34289/lp12bz11.pdf?src-supplier=Digi-Key; ComponentLink2Description: http://www.vishay.com/docs/34289/lp12bz11.pdf?src-supplier=Digi-Key; ComponentLink3URL: http://www.vishay.com/docs/34289/lp12bz11.pdf?src-supplier=Avnet; ComponentLink3Description: http://www.vishay.com/docs/34289/lp12bz11.pdf?src-supplier=Avnet; ComponentLink4URL: http://www.farnell.com/datasheets/652599.pdf?src-supplier=Element14; ComponentLink4Description: http://www.farnell.com/datasheets/652599.pdf?src-supplier=Element14; ComponentLink5URL: http://www.vishay.com/docs/34289/lp12bz11.pdf?src-supplier=Avnet+Europe; ComponentLink5Description: http://www.vishay.com/docs/34289/lp12bz11.pdf?src-supplier=Avnet+Europe; ComponentLink6URL: https://www.verical.com/server-webapp/html/getDatasheet?partID=180380&src-supplier=Verical; ComponentLink6Description: https://www.verical.com/server-webapp/html/getDatasheet?partID=180380&src-supplier=Verical; Supplier Part Number 1: 541-1319-1-ND
footprint IND_IHLP-1212B00 (Footprint not found)
pins: 1, 2

## FIXED IND 2.2UH 7.5A 16.1MOHM SM
designator L?  Inductance: 2.2 uH  Maximum DC Current: 7.5 A  (hidden comment: FIXED IND 2.2UH 7.5A 16.1MOHM SM)
2.2 µH Shielded - Inductor 7.5 A 16.1mOhm Max Nonstandard -; Manufacturer: Wurth Elektronik; Manufacturer Part Number: 74438367022; Self Resonant Frequency: 28 MHz; Tolerance: 20 %; RoHS: RoHS Compliant; Category: Fixed Inductors; Stock 1: 2000; Pricing 1: 1=0.730, 10=0.721, 50=0.601, 100=0.457, 1000=0.397, 2000=0.385 (USD); Application: Power; Height: 3.1 mm; Length: 5.4 mm; Maximum DC Resistance: 16.1 mOhms; Packaging: Cut Tape; Product: Fixed Inductors; Series: WE-MAPI; Shielding: Shielded; Termination Style: SMD/SMT; Width: 5.4 mm; Brand: Wurth Elektronik; Mounting Style: PCB Mount; Maximum Operating Temperature: + 125 C; Minimum Operating Temperature: - 40 C; Product Type: Fixed Inductors; Saturation Current: 7.5 A; Standard Pack Qty: 700; Subcategory: Inductors, Chokes & Coils; Termination: -; RoHS - Mouser: Y; Minimum Order Quantity: 1; Reeling: True; ComponentLink1URL: https://www.digikey.com/en/products/detail/würth-elektronik/74438367022/11657904?s=N4IgTCBcDaIOwBYEGYAcyBscAMYIF0BfIA; ComponentLink1Description: https://www.digikey.com/en/products/detail/würth-elektronik/74438367022/11657904?s=N4IgTCBcDaIOwBYEGYAcyBscAMYIF0BfIA; Supplier 2: Digi-Key; Supplier Part Number 1: 732-74438367022TR-ND; Mount: Surface Mount
footprint IND_WE_MAPI
pins: 1, 2

## FIXED IND 4.7UH 5.5A 34.5MOHM SM
designator L?  Inductance: 4.7 uH  Maximum DC Current: 5.5 A  (hidden comment: FIXED IND 4.7UH 5.5A 34.5MOHM SM)
Manufacturer: Wurth Elektronik; Manufacturer Part Number: 74438367047; Self Resonant Frequency: 18.5 MHz; Shielding: Shielded; Tolerance: 20 %; RoHS: RoHS Compliant; Category: Fixed Inductors; Stock 1: 2000; Pricing 1: 1=0.730, 10=0.721, 50=0.601, 100=0.457, 1000=0.397, 2000=0.385 (USD); Application: Power; Height: 3.1 mm; Length: 5.4 mm; Maximum DC Resistance: 34.5 mOhms; Packaging: Cut Tape; Product: Fixed Inductors; Series: WE-MAPI; Termination Style: SMD/SMT; Width: 5.4 mm; Brand: Wurth Elektronik; Mounting Style: PCB Mount; Maximum Operating Temperature: + 125 C; Minimum Operating Temperature: - 40 C; Product Type: Fixed Inductors; Saturation Current: 5.5 A; Standard Pack Qty: 700; Subcategory: Inductors, Chokes & Coils; Termination: -; RoHS - Mouser: Y; Minimum Order Quantity: 1; Reeling: True; ComponentLink1URL: https://www.digikey.com/en/products/detail/würth-elektronik/74438367047/11657931?s=N4IgjCBcoMxaBjKAzAhgGwM4FMA0IB7KAbXAE4AGCkAXXwAcAXKEAZUYCcBLAOwHMQAX3wA2MvBBJIaLHkIkQAFgpkYq2g2aQ2nXgOHgATGHHRJKDDnxFIpQzHtgRGkExbtu-IfkMUAHADsElIyVvK2SgB0AQAEAK0AEi5u2gCqPFyMAPLIALLYqJgArhzY3iAAtBBmIZZyNqQBDrQGFYbBUJxF9QoArC2CgkA; ComponentLink1Description: https://www.digikey.com/en/products/detail/würth-elektronik/74438367047/11657931?s=N4IgjCBcoMxaBjKAzAhgGwM4FMA0IB7KAbXAE4AGCkAXXwAcAXKEAZUYCcBLAOwHMQAX3wA2MvBBJIaLHkIkQAFgpkYq2g2aQ2nXgOHgATGHHRJKDDnxFIpQzHtgRGkExbtu-IfkMUAHADsElIyVvK2SgB0AQAEAK0AEi5u2gCqPFyMAPLIALLYqJgArhzY3iAAtBBmIZZyNqQBDrQGFYbBUJxF9QoArC2CgkA; Supplier 2: Digi-Key; Supplier Part Number 1: 732-74438367047TR-ND; Mount: Surface Mount
footprint IND_WE_MAPI
pins: 1, 2

## FIXED IND 22UH 600MA 450MOHM SMD
designator L?  Inductance: 22 uH  Maximum DC Current: 0.6 A  (hidden comment: FIXED IND 22UH 600MA 450MOHM SMD)
22 µH Semi-Shielded Wirewound Inductor 600 mA 450mOhm Nonstandard; Manufacturer: Wurth Elektronik; Manufacturer Part Number: 74405031010; Self Resonant Frequency: 19 MHz; Tolerance: 20 %; Test Frequency: 1 MHz; RoHS: RoHS Compliant; Category: Fixed Inductors; Stock 1: 2000; Pricing 1: 1=0.730, 10=0.721, 50=0.601, 100=0.457, 1000=0.397, 2000=0.385 (USD); Application: Power; Height: 1.5 mm; Length: 3 mm; Maximum DC Resistance: 450 mOhms; Package / Case: 3 mm x 3 mm; Packaging: Cut Tape; Product: Fixed Inductors; Series: WE-LQSH; Shielding: Shielded; Termination Style: SMD/SMT; Width: 3 mm; Brand: Wurth Elektronik; Mounting Style: PCB Mount; Maximum Operating Temperature: + 125 C; Minimum Operating Temperature: - 40 C; Product Type: Fixed Inductors; Saturation Current: 0.6 A; Standard Pack Qty: 2000; Subcategory: Inductors, Chokes & Coils; Termination: -; RoHS - Mouser: Y; Minimum Order Quantity: 1; Reeling: True; ComponentLink1URL: https://www.mouser.com/datasheet/2/445/74405031010-1720907.pdf; ComponentLink1Description: https://www.mouser.com/datasheet/2/445/74405031010-1720907.pdf; Supplier 2: Digi-Key; Supplier Part Number 1: 732-5499-1-ND; Mount: Surface Mount
footprint IND_WE_LQSH_3015
pins: 1, 2